# Altium schematic symbol library Regulators.SCHLIB: 3 symbols
Pins are listed as number, name and electrical type; pins without a type are passive.

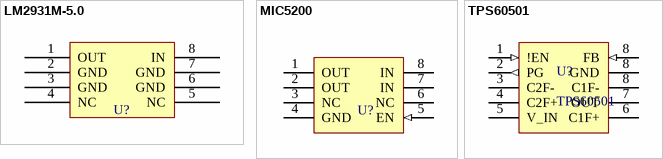
[diagram p0: symbols LM2931M-5.0 to TPS60501]

## LM2931M-5.0
designator U?
Low Drop Out Regulator
footprint SO8
pins: 1 OUT (power), 2 GND (power), 3 GND (power), 4 NC, 5 NC, 6 GND (power), 7 GND (power), 8 IN (power)

## MIC5200
designator U?
MIC5200 - SO8
footprint SO8
pins: 1 OUT (power), 2 OUT (power), 3 NC, 4 GND (power), 5 EN (in), 6 NC, 7 IN (power), 8 IN (power)

## TPS60501
designator U?
5V->3.3V CHARGE PUMP REGULATOR
footprint S-PDSO-G10
pins: 1 !EN (in), 2 PG (out), 3 C2F-, 4 C2F+, 5 V_IN (power), 6 C1F+, 7 OUT (power), 8 C1F-, 8 GND (power), 8 FB (in)